# Altium footprint library ULN2003ADR2G.PcbLib: 3 footprints
Each footprint in its own frame and in the unit in brackets; x right, y up, seen from the top. Pads: shape width x height; smd on the part's side, far side on the other; paste and mask are expansions set on the pad; w line width, h text height; cw(c..) or ccw(c..) is an arc to the next point about the centre after c.
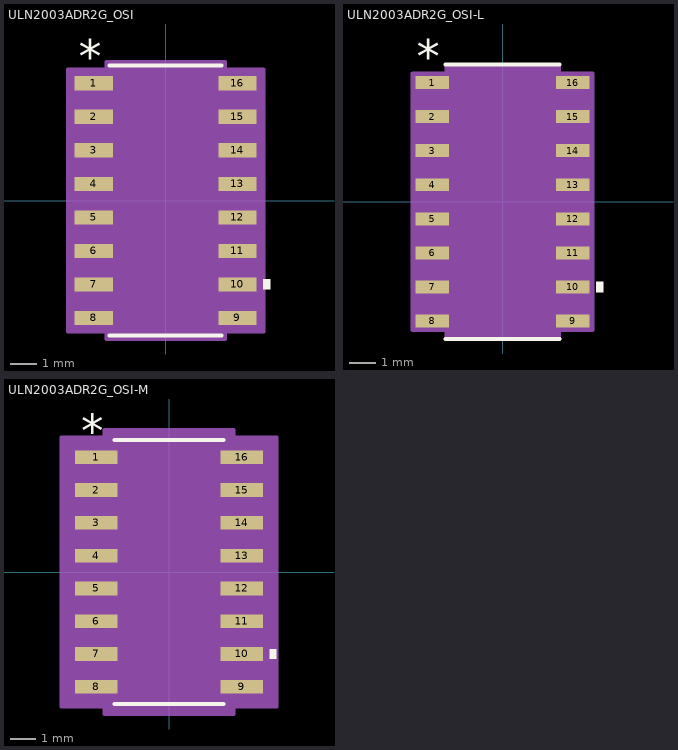
[diagram p0: the footprints below, top view; thin cyan lines are the x and y axes]

## ULN2003ADR2G_OSI [mil]
pads (16):
  rect 57.28x20.97 smd paste+0 mask+0: 1(-107.14,175) 2(-107.14,125) 3(-107.14,75) 4(-107.14,25) 5(-107.14,-25) 6(-107.14,-75) 7(-107.14,-125) 8(-107.14,-175) 9(107.14,-175) 10(107.14,-125) 11(107.14,-75) 12(107.14,-25) 13(107.14,25) 14(107.14,75) 15(107.14,125) 16(107.14,175)
Top Overlay:
  region: 145.78,-117.5 155.78,-117.5 155.78,-132.5 145.78,-132.5
  lines w6: -83.5,-201.5 83.5,-201.5 ; -83.5,201.5 83.5,201.5
  text ".Designator" at -137.5,-25 h50
  text "*" at -129.64,190.97 h50
Mechanical 13:
  lines w1: -12,196.5 ccw(c0,196.5) 12,196.5 ; -122,-184.5 -122,-165.5 -78.5,-165.5 -78.5,-184.5 -122,-184.5 ; -122,-134.5 -122,-115.5 -78.5,-115.5 -78.5,-134.5 -122,-134.5 ; -122,-84.5 -122,-65.5 -78.5,-65.5 -78.5,-84.5 -122,-84.5 ; -122,-34.5 -122,-15.5 -78.5,-15.5 -78.5,-34.5 -122,-34.5 ; -122,15.5 -122,34.5 -78.5,34.5 -78.5,15.5 -122,15.5 ; -122,65.5 -122,84.5 -78.5,84.5 -78.5,65.5 -122,65.5 ; -122,115.5 -122,134.5 -78.5,134.5 -78.5,115.5 -122,115.5 ; -122,165.5 -122,184.5 -78.5,184.5 -78.5,165.5 -122,165.5 ; -78.5,-196.5 78.5,-196.5 78.5,196.5 -78.5,196.5 -78.5,-196.5 ; 78.5,-184.5 78.5,-165.5 122,-165.5 122,-184.5 78.5,-184.5 ; 78.5,-134.5 78.5,-115.5 122,-115.5 122,-134.5 78.5,-134.5 ; 78.5,-84.5 78.5,-65.5 122,-65.5 122,-84.5 78.5,-84.5 ; 78.5,-34.5 78.5,-15.5 122,-15.5 122,-34.5 78.5,-34.5 ; 78.5,15.5 78.5,34.5 122,34.5 122,15.5 78.5,15.5 ; 78.5,65.5 78.5,84.5 122,84.5 122,65.5 78.5,65.5 ; 78.5,115.5 78.5,134.5 122,134.5 122,115.5 78.5,115.5 ; 78.5,165.5 78.5,184.5 122,184.5 122,165.5 78.5,165.5
  text "*" at -76,143.5 h50
  text ".Designator" at -137.5,-25 h50
Mechanical 15:
  region: -88.5,-195.48 -145.78,-195.48 -145.78,195.48 -88.5,195.48 -88.5,206.5 88.5,206.5 88.5,195.48 145.78,195.48 145.78,-195.48 88.5,-195.48 88.5,-206.5 -88.5,-206.5
  lines w6: -145.78,-195.48 -145.78,195.48 -88.5,195.48 -88.5,206.5 88.5,206.5 88.5,195.48 145.78,195.48 145.78,-195.48 88.5,-195.48 88.5,-206.5 -88.5,-206.5 -88.5,-195.48 -145.78,-195.48
3D body "ULN2003ADR2G_OSI.step": height 68.11, standoff 0, extent -122.01,-196.5 122.01,196.5

## ULN2003ADR2G_OSI-L [mil]
pads (16):
  rect 49.41x19 smd paste+0 mask+0: 1(-103.2,175) 2(-103.2,125) 3(-103.2,75) 4(-103.2,25) 5(-103.2,-25) 6(-103.2,-75) 7(-103.2,-125) 8(-103.2,-175) 9(103.2,-175) 10(103.2,-125) 11(103.2,-75) 12(103.2,-25) 13(103.2,25) 14(103.2,75) 15(103.2,125) 16(103.2,175)
Top Overlay:
  region: 137.91,-117.5 147.91,-117.5 147.91,-132.5 137.91,-132.5
  lines w6: -83.5,-201.5 83.5,-201.5 ; -83.5,201.5 83.5,201.5
  text ".Designator" at -137.5,-25 h50
  text "*" at -125.7,189 h50
Mechanical 13:
  lines w1: -12,196.5 ccw(c0,196.5) 12,196.5 ; -122,-184.5 -122,-165.5 -78.5,-165.5 -78.5,-184.5 -122,-184.5 ; -122,-134.5 -122,-115.5 -78.5,-115.5 -78.5,-134.5 -122,-134.5 ; -122,-84.5 -122,-65.5 -78.5,-65.5 -78.5,-84.5 -122,-84.5 ; -122,-34.5 -122,-15.5 -78.5,-15.5 -78.5,-34.5 -122,-34.5 ; -122,15.5 -122,34.5 -78.5,34.5 -78.5,15.5 -122,15.5 ; -122,65.5 -122,84.5 -78.5,84.5 -78.5,65.5 -122,65.5 ; -122,115.5 -122,134.5 -78.5,134.5 -78.5,115.5 -122,115.5 ; -122,165.5 -122,184.5 -78.5,184.5 -78.5,165.5 -122,165.5 ; -78.5,-196.5 78.5,-196.5 78.5,196.5 -78.5,196.5 -78.5,-196.5 ; 78.5,-184.5 78.5,-165.5 122,-165.5 122,-184.5 78.5,-184.5 ; 78.5,-134.5 78.5,-115.5 122,-115.5 122,-134.5 78.5,-134.5 ; 78.5,-84.5 78.5,-65.5 122,-65.5 122,-84.5 78.5,-84.5 ; 78.5,-34.5 78.5,-15.5 122,-15.5 122,-34.5 78.5,-34.5 ; 78.5,15.5 78.5,34.5 122,34.5 122,15.5 78.5,15.5 ; 78.5,65.5 78.5,84.5 122,84.5 122,65.5 78.5,65.5 ; 78.5,115.5 78.5,134.5 122,134.5 122,115.5 78.5,115.5 ; 78.5,165.5 78.5,184.5 122,184.5 122,165.5 78.5,165.5
  text "*" at -76,143.5 h50
  text ".Designator" at -137.5,-25 h50
Mechanical 15:
  region: -82.5,-188.5 -131.91,-188.5 -131.91,188.5 -82.5,188.5 -82.5,200.5 82.5,200.5 82.5,188.5 131.91,188.5 131.91,-188.5 82.5,-188.5 82.5,-200.5 -82.5,-200.5
  lines w6: -131.91,-188.5 -131.91,188.5 -82.5,188.5 -82.5,200.5 82.5,200.5 82.5,188.5 131.91,188.5 131.91,-188.5 82.5,-188.5 82.5,-200.5 -82.5,-200.5 -82.5,-188.5 -131.91,-188.5
3D body "ULN2003ADR2G_OSI.step": height 68.11, standoff 0, extent -122.01,-196.5 122.01,196.5

## ULN2003ADR2G_OSI-M [mil]
pads (16):
  rect 65.15x20.97 smd paste+0 mask+0: 1(-111.08,175) 2(-111.08,125) 3(-111.08,75) 4(-111.08,25) 5(-111.08,-25) 6(-111.08,-75) 7(-111.08,-125) 8(-111.08,-175) 9(111.08,-175) 10(111.08,-125) 11(111.08,-75) 12(111.08,-25) 13(111.08,25) 14(111.08,75) 15(111.08,125) 16(111.08,175)
Top Overlay:
  region: 153.65,-117.5 163.65,-117.5 163.65,-132.5 153.65,-132.5
  lines w6: -83.5,-201.5 83.5,-201.5 ; -83.5,201.5 83.5,201.5
  text ".Designator" at -137.5,-25 h50
  text "*" at -133.58,190.97 h50
Mechanical 13:
  lines w1: -12,196.5 ccw(c0,196.5) 12,196.5 ; -122,-184.5 -122,-165.5 -78.5,-165.5 -78.5,-184.5 -122,-184.5 ; -122,-134.5 -122,-115.5 -78.5,-115.5 -78.5,-134.5 -122,-134.5 ; -122,-84.5 -122,-65.5 -78.5,-65.5 -78.5,-84.5 -122,-84.5 ; -122,-34.5 -122,-15.5 -78.5,-15.5 -78.5,-34.5 -122,-34.5 ; -122,15.5 -122,34.5 -78.5,34.5 -78.5,15.5 -122,15.5 ; -122,65.5 -122,84.5 -78.5,84.5 -78.5,65.5 -122,65.5 ; -122,115.5 -122,134.5 -78.5,134.5 -78.5,115.5 -122,115.5 ; -122,165.5 -122,184.5 -78.5,184.5 -78.5,165.5 -122,165.5 ; -78.5,-196.5 78.5,-196.5 78.5,196.5 -78.5,196.5 -78.5,-196.5 ; 78.5,-184.5 78.5,-165.5 122,-165.5 122,-184.5 78.5,-184.5 ; 78.5,-134.5 78.5,-115.5 122,-115.5 122,-134.5 78.5,-134.5 ; 78.5,-84.5 78.5,-65.5 122,-65.5 122,-84.5 78.5,-84.5 ; 78.5,-34.5 78.5,-15.5 122,-15.5 122,-34.5 78.5,-34.5 ; 78.5,15.5 78.5,34.5 122,34.5 122,15.5 78.5,15.5 ; 78.5,65.5 78.5,84.5 122,84.5 122,65.5 78.5,65.5 ; 78.5,115.5 78.5,134.5 122,134.5 122,115.5 78.5,115.5 ; 78.5,165.5 78.5,184.5 122,184.5 122,165.5 78.5,165.5
  text "*" at -76,143.5 h50
  text ".Designator" at -137.5,-25 h50
Mechanical 15:
  region: -98.5,-205.48 -163.65,-205.48 -163.65,205.48 -98.5,205.48 -98.5,216.5 98.5,216.5 98.5,205.48 163.65,205.48 163.65,-205.48 98.5,-205.48 98.5,-216.5 -98.5,-216.5
  lines w6: -163.65,-205.48 -163.65,205.48 -98.5,205.48 -98.5,216.5 98.5,216.5 98.5,205.48 163.65,205.48 163.65,-205.48 98.5,-205.48 98.5,-216.5 -98.5,-216.5 -98.5,-205.48 -163.65,-205.48
3D body "ULN2003ADR2G_OSI.step": height 68.11, standoff 0, extent -122.01,-196.5 122.01,196.5